# EAGLE library part MC9S08SH8-16 (library freescale-hcs08)
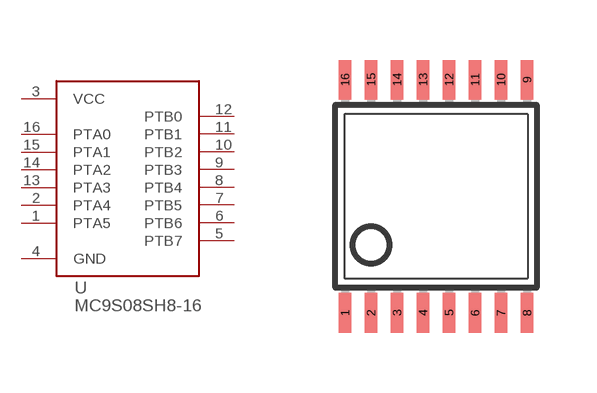
[diagram p5: symbol with the pads of TSSOP16; footprint TSSOP16]

Designator prefix -

## MC9S08SH8-16  [TSSOP16]
1  PTA5
2  PTA4
3  VCC
4  GND
5  PTB7
6  PTB6
7  PTB5
8  PTB4
9  PTB3
10  PTB2
11  PTB1
12  PTB0
13  PTA3
14  PTA2
15  PTA1
16  PTA0

## Footprint TSSOP16 (pad centres in mm)
Thin Shrink Small Outline Plastic 16 MAX3223-MAX3243.pdf
smd 0.305 x 0.991: 1 -2.275,-2.918; 2 -1.625,-2.918; 3 -0.975,-2.918; 4 -0.325,-2.918; 5 0.325,-2.918; 6 0.975,-2.918; 7 1.625,-2.918; 8 2.275,-2.918; 9 2.275,2.918; 10 1.625,2.918; 11 0.975,2.918; 12 0.325,2.918; 13 -0.325,2.918; 14 -0.975,2.918; 15 -1.625,2.918; 16 -2.275,2.918